# EAGLE library part I__4504 (library ..SMD)
TTL or CMOS to CMOS hex LEVEL SHIFTER
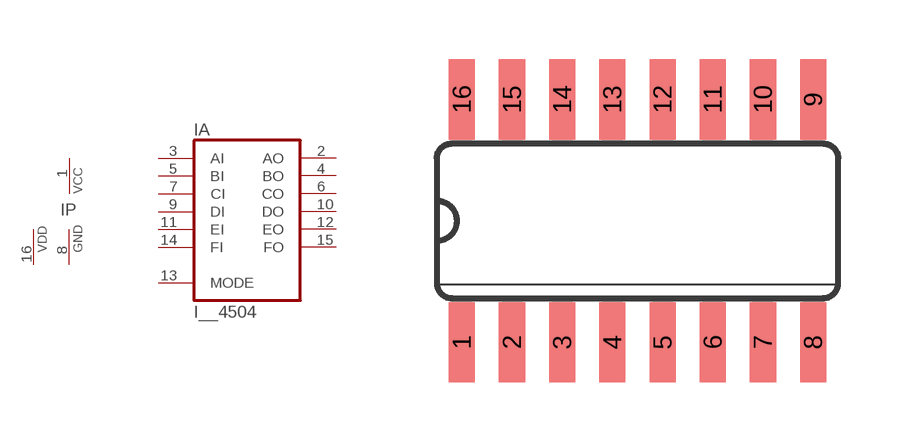
[diagram p95: symbol with the pads of SO16; footprint SO16]

Designator prefix I; gates A=4504 P=PWR+VCC

## I__4504D  [SO16]
1  P:VCC  pwr
2  A:AO  out
3  A:AI  in
4  A:BO  out
5  A:BI  in
6  A:CO  out
7  A:CI  in
8  P:GND  pwr
9  A:DI  in
10  A:DO  out
11  A:EI  in
12  A:EO  out
13  A:MODE  in
14  A:FI  in
15  A:FO  out
16  P:VDD  pwr

## Footprint SO16 (pad centres in mm)
Small Outline Package 16
smd 0.66 x 2.032: 1 -4.445,-3.073; 2 -3.175,-3.073; 3 -1.905,-3.073; 4 -0.635,-3.073; 5 0.635,-3.073; 6 1.905,-3.073; 7 3.175,-3.073; 8 4.445,-3.073; 9 4.445,3.073; 10 3.175,3.073; 11 1.905,3.073; 12 0.635,3.073; 13 -0.635,3.073; 14 -1.905,3.073; 15 -3.175,3.073; 16 -4.445,3.073